# Altium schematic symbol library PIF_ROBOT.SchLib: 110 symbols
Pins are listed as number, name and electrical type; pins without a type are passive.

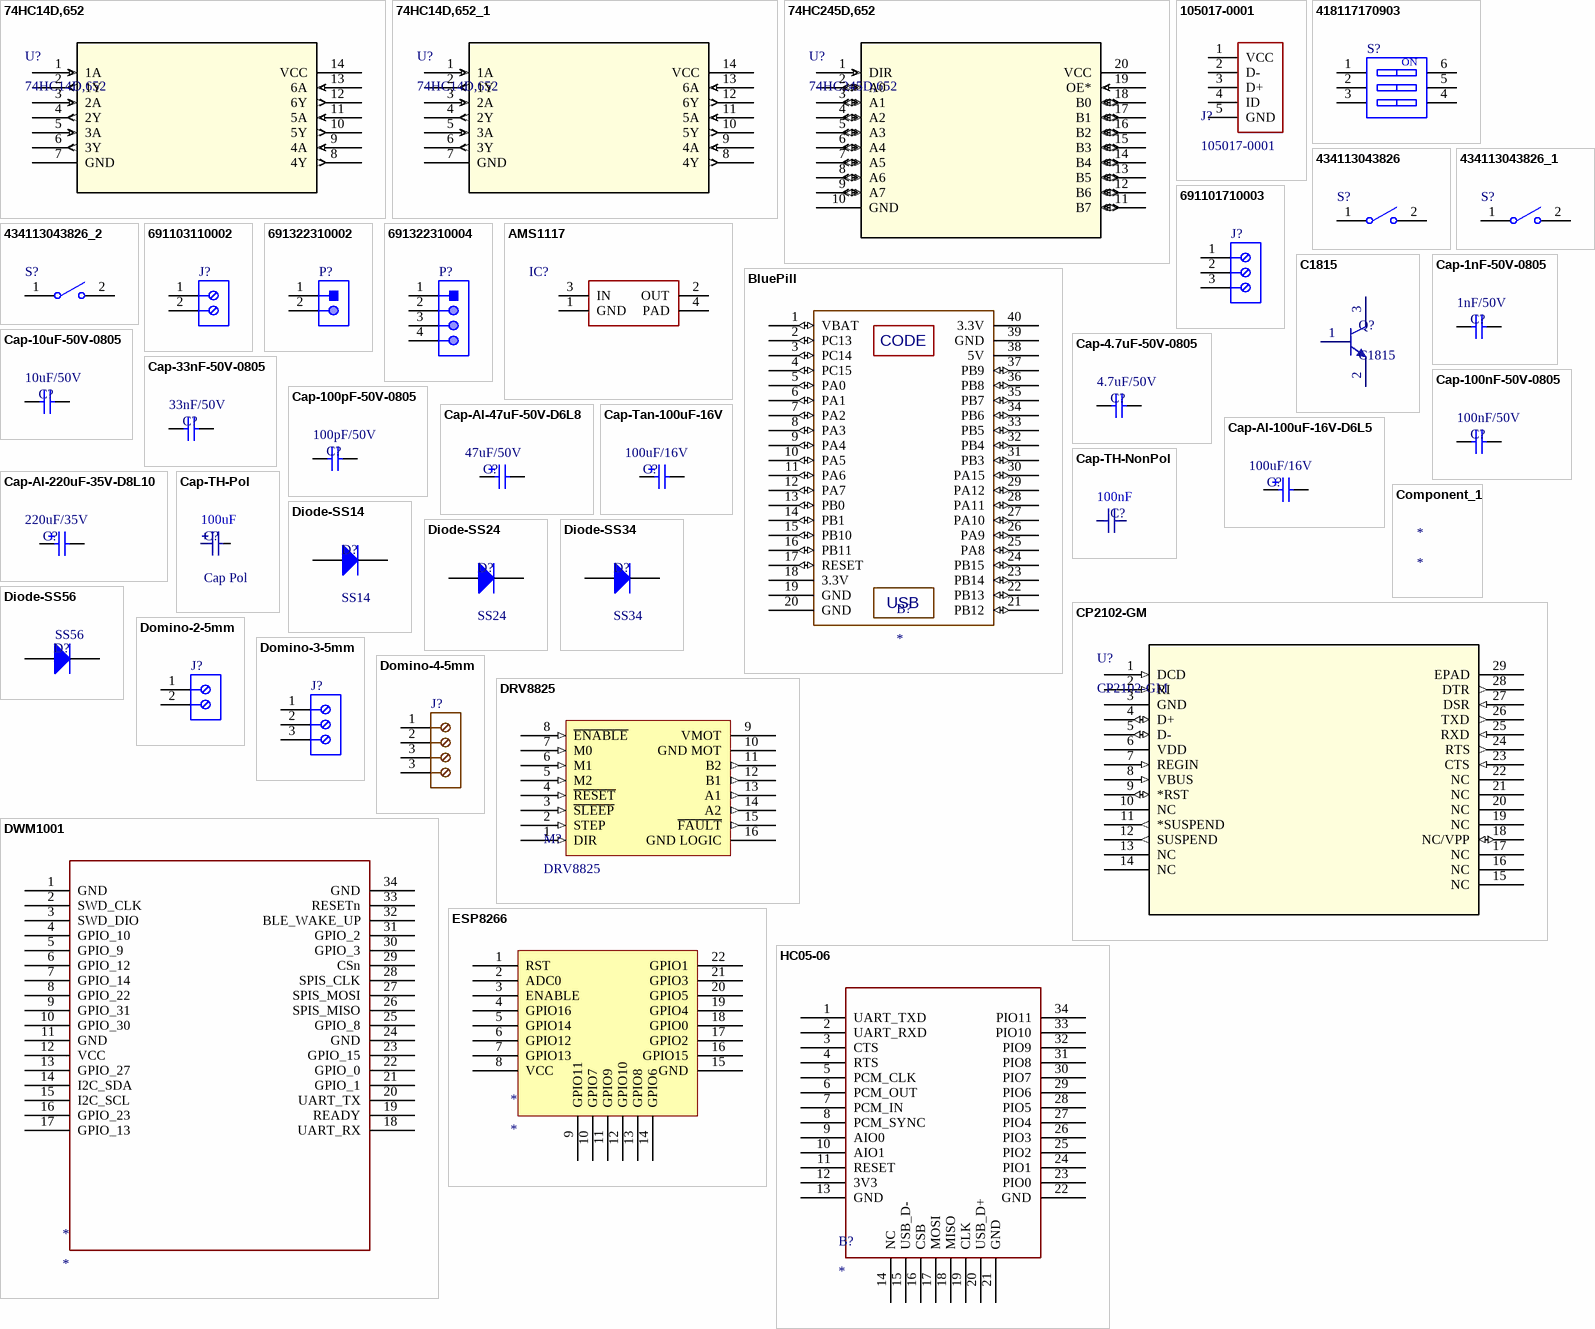
[diagram p0: symbols 74HC14D,652 to HC05-06]

## 74HC14D,652
designator U?
No Description Available; Vendor: Nexperia; SourceLibrary: Nexperia_2018-05-2018; Manufacturer_Part_Number: 74HC14D,652; Copyright: Copyright (C) 2016 Accelerated Designs. All rights reserved; RefDes: RefDes; Type: DEV
footprint 74hc14d
pins: 1 1A (in), 2 1Y (out), 3 2A (in), 4 2Y (out), 5 3A (in), 6 3Y (out), 7 GND (power), 8 4Y (out), 9 4A (in), 10 5Y (out), 11 5A (in), 12 6Y (out), 13 6A (in), 14 VCC (power)

## 74HC14D,652_1
designator U?, comment 74HC14D,652
No Description Available; Vendor: Nexperia; SourceLibrary: Nexperia_2018-05-2018; Manufacturer_Part_Number: 74HC14D,652; Copyright: Copyright (C) 2016 Accelerated Designs. All rights reserved; RefDes: RefDes; Type: DEV
footprint SOT108-1_NEX
pins: 1 1A (in), 2 1Y (out), 3 2A (in), 4 2Y (out), 5 3A (in), 6 3Y (out), 7 GND (power), 8 4Y (out), 9 4A (in), 10 5Y (out), 11 5A (in), 12 6Y (out), 13 6A (in), 14 VCC (power)

## 74HC245D,652
designator U?
No Description Available; Vendor: Nexperia; SourceLibrary: Nexperia_2018-05-2018; Manufacturer_Part_Number: 74HC245D,652; Copyright: Copyright (C) 2016 Accelerated Designs. All rights reserved; RefDes: RefDes; Type: DEV
footprint 74hc245d
pins: 1 DIR (in), 2 A0 (io), 3 A1 (io), 4 A2 (io), 5 A3 (io), 6 A4 (io), 7 A5 (io), 8 A6 (io), 9 A7 (io), 10 GND (power), 11 B7 (io), 12 B6 (io), 13 B5 (io), 14 B4 (io), 15 B3 (io), 16 B2 (io), 17 B1 (io), 18 B0 (io), 19 OE* (in), 20 VCC (power)

## 105017-0001
designator J?
No Description Available; Vendor: Molex Connector Corporation; Built_By: EMA_Cory; SourceLibrary: Molex_2020-05-26; Datasheet: https://www.molex.com/pdm_docs/sd/1050170001_sd.pdf; Manufacturer_Part_Number: 105017-0001; Copyright: Copyright (C) 2018 Accelerated Designs. All rights reserved; RefDes: RefDes; Type: DEV
footprint CONN_105017-0001
pins: 1 VCC, 2 D-, 3 D+, 4 ID, 5 GND

## 418117170903
designator S?
WS-DITV Compact THT Dip Switch, Flat Actuator, pitch 2.54mm, 3p; Part Number: 418117170903; Operation Force: 800g; Pole Number: 3; Actuator Type: Flat Type; Circuit: SPST-NO; Rated Current Switching: 25mA; Rated Current Non-Switching: 100mA; Rated Voltage Non-Switching: 50VDC; Rated Voltage Switching: 24VDC; ComponentLink1Description: Manufacturer; ComponentLink1URL: http://www.we-online.de; ComponentLink2Description: Datasheet; ComponentLink2URL: https://katalog.we-online.com/em/datasheet/418117170903.pdf; Pitch: 2.54mm; Contact Material: Copper Alloy; Mounting Technology: THT; Operating Temperature: -40 to +85degC; Contact Plating: Gold; Packaging: Tube; Publisher: Wurth Elektronik; Published Date: September 2019
footprint 418117170903
pins: 1, 2, 3, 4, 5, 6
text: ON

## 434113043826
designator S?
WS-TASV J-Bend SMT Tact Switch 6x3.5mm, height 4.3mm, 260gf; Part Number: 434113043826; Rated Voltage: 12VDC; Rated Current: 50mA; Washable: No; ComponentLink1Description: Manufacturer; ComponentLink1URL: http://www.we-online.de; ComponentLink2Description: Datasheet; ComponentLink2URL: https://katalog.we-online.com/em/datasheet/434113043826.pdf; Operating Temperature: -40 to +85degC; Published Date: September 2019; Contact Material: Stainless Steel; Height: 4.3mm; Mounting Technology: SMT; Contact Plating: Silver; Operation Force: 260gf; Packaging: Tape and Reel; Terminal Material: Copper Alloy; Publisher: Wurth Elektronik; Terminal Plating: Silver
footprint 434113043826 (SMD Tact Switch, body 6x3.5mm)
pins: 1, 2

## 434113043826_1
designator S?
WS-TASV J-Bend SMT Tact Switch 6x3.5mm, height 4.3mm, 260gf; Part Number: 434113043826; Rated Voltage: 12VDC; Rated Current: 50mA; Washable: No; ComponentLink1Description: Manufacturer; ComponentLink1URL: http://www.we-online.de; ComponentLink2Description: Datasheet; ComponentLink2URL: https://katalog.we-online.com/em/datasheet/434113043826.pdf; Operating Temperature: -40 to +85degC; Published Date: September 2019; Contact Material: Stainless Steel; Height: 4.3mm; Mounting Technology: SMT; Contact Plating: Silver; Operation Force: 260gf; Packaging: Tape and Reel; Terminal Material: Copper Alloy; Publisher: Wurth Elektronik; Terminal Plating: Silver
footprint 434113043826 (SMD Tact Switch, body 6x3.5mm)
pins: 1, 2

## 434113043826_2
designator S?
WS-TASV J-Bend SMT Tact Switch 6x3.5mm, height 4.3mm, 260gf; Part Number: 434113043826; Rated Voltage: 12VDC; Rated Current: 50mA; Washable: No; ComponentLink1Description: Manufacturer; ComponentLink1URL: http://www.we-online.de; ComponentLink2Description: Datasheet; ComponentLink2URL: https://katalog.we-online.com/em/datasheet/434113043826.pdf; Operating Temperature: -40 to +85degC; Published Date: September 2019; Contact Material: Stainless Steel; Height: 4.3mm; Mounting Technology: SMT; Contact Plating: Silver; Operation Force: 260gf; Packaging: Tape and Reel; Terminal Material: Copper Alloy; Publisher: Wurth Elektronik; Terminal Plating: Silver
footprint 434113043826 (SMD Tact Switch, body 6x3.5mm)
pins: 1, 2

## 691101710003
designator J?
WR-TBL Serie 101 Horizontal Entry Modular, Pressure Clamp, pitch 5mm, 3p; Part Number: 691101710003; Compliance: Lead free / RoHS; Modularity: Yes; PCB/Cable/Panel: PCB; Pin Number: 3; Rated Current [UL]: 16A; Working Voltage [UL]: 250VAC; ComponentLink1Description: Manufacturer; ComponentLink1URL: http://www.we-online.de; ComponentLink2URL: https://katalog.we-online.de/em/datasheet/691101710003.pdf; ComponentLink2Description: Datasheet; Mounting Technology: THT; Packaging: Box; Operating Temperature: -40 to +105degC; Pitch: 5mm; Published Date: October 2019; Type: Horizontal; Publisher: Wurth Elektronik; Application: Pressure Clamp
footprint 691101710003
pins: 1, 2, 3

## 691103110002
designator J?
WR-TBL Serie 1031 Horizontal Entry Modular, Pressure Clamp, pitch 3.5mm, 2p; Part Number: 691103110002; Compliance: Lead free / RoHS; Modularity: Yes; PCB/Cable/Panel: PCB; Pin Number: 2; Rated Current [UL]: 10A; Working Voltage [UL]: 125VAC; ComponentLink1Description: Manufacturer; ComponentLink1URL: http://www.we-online.de; ComponentLink2URL: https://katalog.we-online.de/em/datasheet/691103110002.pdf; ComponentLink2Description: Datasheet; Mounting Technology: THT; Packaging: Box; Operating Temperature: -40 to +105degC; Pitch: 3.5mm; Published Date: October 2019; Type: Horizontal; Publisher: Wurth Elektronik; Application: Pressure Clamp
footprint 691103110002
pins: 1, 2

## 691322310002
designator P?
WR-TBL Serie 322 Horizontal PCB Header, Pluggable, pitch 3.81mm, 2p; Part Number: 691322310002; Compliance: RoHS; Modularity: No; Pin Number: 2; Rated Current [UL]: 10A; Working Voltage [UL]: 300VAC; ComponentLink1Description: Manufacturer; ComponentLink1URL: http://www.we-online.de; ComponentLink2URL: https://katalog.we-online.de/em/datasheet/691322310002.pdf; ComponentLink2Description: Datasheet; Mounting Technology: THT; Packaging: Box; Operating Temperature: -40 to +105degC; PCB/Cable/Panel: PCB; Pitch: 3.81mm; Published Date: October 2019; Type: Horizontal; Publisher: Wurth Elektronik; Application: Pluggable
footprint 691322310002
pins: 1, 2

## 691322310004
designator P?
WR-TBL Serie 322 Horizontal PCB Header, Pluggable, pitch 3.81mm, 4p; Part Number: 691322310004; Compliance: RoHS; Modularity: No; Pin Number: 4; Rated Current [UL]: 10A; Working Voltage [UL]: 300VAC; ComponentLink1Description: Manufacturer; ComponentLink1URL: http://www.we-online.de; ComponentLink2URL: https://katalog.we-online.de/em/datasheet/691322310004.pdf; ComponentLink2Description: Datasheet; Mounting Technology: THT; Packaging: Box; Operating Temperature: -40 to +105degC; PCB/Cable/Panel: PCB; Pitch: 3.81mm; Published Date: October 2019; Type: Horizontal; Publisher: Wurth Elektronik; Application: Pluggable
footprint 691322310004
pins: 1, 2, 3, 4

## AMS1117
designator IC?
Available in 1.8V, 2.5V, 2.85V, 3.3V, 5V, and  Adjustable Versions; Value: LM317
footprint SOT223 (SOT223, 4-Leads, Body 6.5x3.5mm, Pitch 2.3mm, Lead Span 7mm, IPC Medium Density)
pins: 1 GND, 2 OUT, 3 IN, 4 PAD

## BluePill
designator B?
footprint BlUEPILL
pins: 1 VBAT (io), 2 PC13 (io), 3 PC14 (io), 4 PC15 (io), 5 PA0 (io), 6 PA1 (io), 7 PA2 (io), 8 PA3 (io), 9 PA4 (io), 10 PA5 (io), 11 PA6 (io), 12 PA7 (io), 13 PB0 (io), 14 PB1 (io), 15 PB10 (io), 16 PB11 (io), 17 RESET (io), 18 3.3V (power), 19 GND (power), 20 GND (power), 21 PB12 (io), 22 PB13 (io), 23 PB14 (io), 24 PB15 (io), 25 PA8 (io), 26 PA9 (io), 27 PA10 (io), 28 PA11 (io), 29 PA12 (io), 30 PA15 (io), 31 PB3 (io), 32 PB4 (io), 33 PB5 (io), 34 PB6 (io), 35 PB7 (io), 36 PB8 (io), 37 PB9 (io), 38 5V (power), 39 GND (power), 40 3.3V (power)
text: CODE; USB

## C1815
designator Q?
footprint QTO-92 (TO-92)
footprint SOT23_NEX
pins: 1 B, 2 E, 3 C

## Cap-1nF-50V-0805
designator C?  value 1nF/50V
CAP CER 1000PF 100V X7R 0805; Manufacturer: Johanson Dielectrics Inc.; Manufacturer Part Number: 101X15W102MV4E; Local Supplier: thegioiic; Local Supplier Link: https://thegioiic.com/products/tu-1nf-50v-0805; Supplier 1: Digikey; Supplier 1 Link: https://www.digikey.com/product-detail/en/johanson-dielectrics-inc/101X15W102MV4E/709-1335-1-ND/2327235; Supplier 1 Part Number: 709-1335-1-ND
footprint CAP-SM-0805
pins: 1, 2

## Cap-4.7uF-50V-0805
designator C?  value 4.7uF/50V
CAP CER 4.7UF 50V X5R 0805; Manufacturer: Murata Electronics; Manufacturer Part Number: GRM21BR61H475KE51L; Local Supplier: thegioiic; Local Supplier Link: https://thegioiic.com/products/tu-4-7uf-50v-0805-cap; Supplier 1: Digikey; Supplier 1 Link: https://www.digikey.com/product-detail/en/murata-electronics/GRM21BR61H475KE51L/490-10751-1-ND/5251349; Supplier 1 Part Number: 490-10751-1-ND
footprint CAP-SM-0805
pins: 1, 2

## Cap-10uF-50V-0805
designator C?  value 10uF/50V
CAP CER 10UF 50V X5R 0805; Manufacturer: Yageo; Manufacturer Part Number: CC0805KKX5R9BB106; Local Supplier: thegioiic; Local Supplier Link: https://thegioiic.com/products/tu-10uf-50v-0805; Supplier 1: Digikey; Supplier 1 Link: https://www.digikey.com/product-detail/en/yageo/CC0805KKX5R9BB106/311-3499-2-ND/7164383; Supplier 1 Part Number: 311-3499-2-ND
footprint CAP-SM-0805
pins: 1, 2

## Cap-33nF-50V-0805
designator C?  value 33nF/50V
CAP CER 0.033UF 50V X7R 0805; Manufacturer: Samsung Electro-Mechanics; Manufacturer Part Number: CL21B333KBANNNC; Local Supplier: thegioiic; Local Supplier Link: https://thegioiic.com/products/tu-33nf-50v-0805; Supplier 1: Digikey; Supplier 1 Link: https://www.digikey.com/product-detail/en/samsung-electro-mechanics/CL21B333KBANNNC/1276-1796-1-ND/3889882; Supplier 1 Part Number: 1276-1796-1-ND
footprint CAP-SM-0805
pins: 1, 2

## Cap-100nF-50V-0805
designator C?  value 100nF/50V
CAP CER 0.1UF 50V Y5V 0805; Manufacturer: Samsung Electro-Mechanics; Manufacturer Part Number: CL21F104ZBCNNNC; Local Supplier: thegioiic; Local Supplier Link: https://thegioiic.com/products/tu-100nf-0-1uf-50v-0805; Supplier 1: Digikey; Supplier 1 Part Number: 1276-1007-1-ND; Supplier 1 Link: https://www.digikey.com/product-detail/en/samsung-electro-mechanics/CL21F104ZBCNNNC/1276-1007-1-ND/3889093
footprint CAP-SM-0805
pins: 1, 2

## Cap-100pF-50V-0805
designator C?  value 100pF/50V
CAP CER 100PF 50V C0G/NP0 0805; Manufacturer: KEMET; Manufacturer Part Number: C0805C101J5GACTU; Local Supplier: thegioiic; Local Supplier Link: https://thegioiic.com/products/tu-100pf-50v-0805; Supplier 1: Digikey; Supplier 1 Part Number: 399-1122-1-ND; Supplier 1 Link: https://www.digikey.com/product-detail/en/kemet/C0805C101J5GACTU/399-1122-1-ND/411397
footprint CAP-SM-0805
pins: 1, 2

## Cap-Al-47uF-50V-D6L8
designator C?  value 47uF/50V
CAP ALUM POLY 47UF 20% 50V SMD; Manufacturer: KEMET; Manufacturer Part Number: A767KN476M1HLAE029; Local Supplier: thegioiic; Local Supplier Link: https://thegioiic.com/products/tu-nhom-smd-47uf-50v-d6l8; Supplier 1: Digikey; Supplier 1 Link: https://www.digikey.com/product-detail/en/kemet/A767KN476M1HLAE029/399-16576-1-ND/7933076; Supplier 1 Part Number: 399-16576-1-ND
footprint CAP-SM-AL-SIZE-D-D6L6 (WH6.6)
pins: 1, 2
1 alternate drawing of the same symbol

## Cap-Al-100uF-16V-D6L5
designator C?  value 100uF/16V
CAP ALUM 100UF 20% 16V SMD; Manufacturer: Nichicon; Manufacturer Part Number: UWX1C101MCL1GB; Local Supplier: thegioiic; Local Supplier Link: https://thegioiic.com/products/tu-nhom-smd-100uf-16v-d6-3l5-4; Supplier 1: Digikey; Supplier 1 Part Number: 493-2105-1-ND; Supplier 1 Link: https://www.digikey.com/product-detail/en/nichicon/UWX1C101MCL1GB/493-2105-1-ND/590080
footprint CAP-SM-AL-SIZE-D-D6L6 (WH6.6)
pins: 1, 2
1 alternate drawing of the same symbol

## Cap-Al-220uF-35V-D8L10
designator C?  value 220uF/35V
CAP ALUM 220UF 20% 35V SMD; Manufacturer: Nichicon; Manufacturer Part Number: UWT1V221MNL1GS; Local Supplier: thegioiic; Local Supplier Link: https://thegioiic.com/products/tu-nhom-smd-220uf-35v-d8l10; Supplier 1: Digikey; Supplier 1 Link: https://www.digikey.com/product-detail/en/nichicon/UWT1V221MNL1GS/493-2205-2-ND/589946; Supplier 1 Part Number: 493-2205-2-ND
footprint CAP-SM-AL-SIZE-F-D8L10 (WH8.3)
pins: 1, 2
1 alternate drawing of the same symbol

## Cap-Tan-100uF-16V
designator C?, comment value 100uF/16V  (hidden comment: TAJB107M006RNJ)
Manufacturer: Nichicon; Manufacturer Part Number: UWX1C101MCL1GB; Local Supplier: icdayroi; Local Supplier Link: https://icdayroi.com/tu-tantalum-100uf-16v-smd6032; Supplier 1: Digikey; Supplier 1 Part Number: 493-2105-1-ND; Supplier 1 Link: https://www.digikey.com/product-detail/en/nichicon/UWX1C101MCL1GB/493-2105-1-ND/590080
footprint CAP_SM_TAN
pins: 1, 2
1 alternate drawing of the same symbol

## Cap-TH-NonPol
designator C?, comment value 100nF  (hidden comment: Cap Non-Pol)
Capacitor
footprint CN1
footprint CN1.5
footprint CN2
footprint CN2.5 (Tu pin to pin 250mil)
footprint CN3 (Cap np W 0.3)
footprint CN4 (Cap np W 0.4)
pins: 1, 2

## Cap-TH-Pol
designator C?, comment Cap Pol  value 100uF
Polarized Capacitor (Radial)
footprint CP1/2 (Tu hoa < 22uF/16>50V)
footprint CP1/2N (Tu hoa < 22uF/16>50V)
footprint CP1/2.5 (Tu hoa 33 >100 uF,50V, 220uF/16V,25V)
footprint CP1/3.0
footprint CP1.5/2.5 (Tu hoa 33 >100 uF,50V, 220uF/16V,25V ( it su dung ))
footprint CP1.5/3.4 (Tu hoa 220->470uF,16V, 470uF/16V,25V)
footprint CP2/4 (Tu hoa 1000uF/16V/25V)
footprint CP2/5 (Tu hoa 1000uF/25V,50V)
footprint CP3/7 (Tu hoa 4700uF/25V)
footprint CP4/8.5 (Tu hoa 4700uF/50V)
footprint CP4/12 (Tu hoa 220uF/450V)
footprint CP4.5/19 (Tu hoa 10,000uF/63V)
pins: 1, 2
1 alternate drawing of the same symbol

## Component_1
designator *

## CP2102-GM
designator U?
No Description Available; Vendor: Silicon Labs; Built_By: EMA_UL_Team; SourceLibrary: Silicon_Labs_2015-03-23; Manufacturer_Part_Number: CP2102-GM; Copyright: Copyright (C) 2018 Accelerated Designs. All rights reserved; RefDes: RefDes; Type: DEV
footprint CP2102
pins: 1 DCD (in), 2 RI (in), 3 GND (power), 4 D+ (io), 5 D- (io), 6 VDD (power), 7 REGIN (in), 8 VBUS (in), 9 *RST (io), 10 NC, 11 *SUSPEND (out), 12 SUSPEND (out), 13 NC, 14 NC, 15 NC, 16 NC, 17 NC, 18 NC/VPP (io), 19 NC, 20 NC, 21 NC, 22 NC, 23 CTS (in), 24 RTS (out), 25 RXD (in), 26 TXD (out), 27 DSR (in), 28 DTR (out), 29 EPAD

## Diode-SS14
designator D?, comment SS14
DIODE SCHOTTKY 40V 1A SMA; Manufacturer: ON Semiconductor; Local Supplier: thegioiic; Local Supplier Link: https://thegioiic.com/products/ss14-sma; Supplier 1: Digikey; Supplier 1 Link: https://www.digikey.com/product-detail/en/on-semiconductor/SS14/SS14CT-ND/965729; Manufacturer Part Number: SS14; Supplier 1 Part Number: SS14CT-ND
footprint SS14 (DO-214-AC/SMA Molded Diode, Body 5.3x2.6mm, IPC Medium Density)
pins: 1 K, 2 A

## Diode-SS24
designator D?, comment SS24
DIODE SCHOTTKY 40V 2A DO214AA; Manufacturer: ON Semiconductor; Local Supplier: thegioiic; Local Supplier Link: https://thegioiic.com/products/ss24-smb; Supplier 1: Digikey; Supplier 1 Part Number: SS24FSCT-ND; Manufacturer Part Number: SS24; Supplier 1 Link: https://www.digikey.com/product-detail/en/on-semiconductor/SS24/SS24FSCT-ND/1626273
footprint SS24 (DO-214-AC/SMA Molded Diode, Body 5.3x2.6mm, IPC Medium Density)
pins: 1 K, 2 A

## Diode-SS34
designator D?, comment SS34
DIODE SCHOTTKY 40V 3A SMC; Manufacturer: ON Semiconductor; Local Supplier: thegioiic; Local Supplier Link: https://thegioiic.com/products/ss34-sma; Supplier 1: Digikey; Supplier 1 Link: https://www.digikey.com/product-detail/en/on-semiconductor/SS34/SS34FSCT-ND/2094459; Supplier 1 Part Number: SS34FSCT-ND; Manufacturer Part Number: SS34
footprint SS34 (DO-214-AC/SMA Molded Diode, Body 5.3x2.6mm, IPC Medium Density)
pins: 1 K, 2 A

## Diode-SS56
designator D?  value SS56
5.0A Surface Mount Schottky Rectifier; Supplier 1: thegioiic; Supplier 1 Link: https://thegioiic.com/products/ss56-smb
footprint SS56 (DO-214-AC/SMA Molded Diode, Body 5.3x2.6mm, IPC Medium Density)
pins: 1 K, 2 A

## Domino-2-5mm
designator J?
WR-TBL Serie 1347 Horizontal Cable Entry, Pressure Clamp, pitch 5mm, 2p; Part Number: 691134710002; Compliance: Lead free / RoHS; Modularity: Yes; PCB/Cable/Panel: PCB; Pin Number: 2; Rated Current [UL]: 16A; Working Voltage [UL]: 300VAC; ComponentLink1Description: Manufacturer; ComponentLink1URL: http://www.we-online.de; ComponentLink2URL: https://katalog.we-online.de/em/datasheet/691134710002.pdf; ComponentLink2Description: Datasheet; Mounting Technology: THT; Packaging: Box; Operating Temperature: -30 to +120degC; Pitch: 5mm; Published Date: October 2019; Type: Horizontal; Publisher: Wurth Elektronik; Application: Pressure Clamp
footprint DOMINO-2-5MM (Serie 1347 - 5.00 mm_2 pins)
pins: 1, 2

## Domino-3-5mm
designator J?
WR-TBL Serie 1347 Horizontal Cable Entry, Pressure Clamp, pitch 5mm, 3p; Part Number: 691134710003; Compliance: Lead free / RoHS; Modularity: Yes; PCB/Cable/Panel: PCB; Pin Number: 3; Rated Current [UL]: 16A; Working Voltage [UL]: 300VAC; ComponentLink1Description: Manufacturer; ComponentLink1URL: http://www.we-online.de; ComponentLink2URL: https://katalog.we-online.de/em/datasheet/691134710003.pdf; ComponentLink2Description: Datasheet; Mounting Technology: THT; Packaging: Box; Operating Temperature: -30 to +120degC; Pitch: 5mm; Published Date: October 2019; Type: Horizontal; Publisher: Wurth Elektronik; Application: Pressure Clamp
footprint DOMINO-3-5mm (Serie 1347 - 5.00 mm_3 pins)
pins: 1, 2, 3

## Domino-4-5mm
designator J?
WR-TBL Serie 1347 Horizontal Cable Entry, Pressure Clamp, pitch 5mm, 3p; Part Number: 691134710003; Compliance: Lead free / RoHS; Modularity: Yes; PCB/Cable/Panel: PCB; Pin Number: 3; Rated Current [UL]: 16A; Working Voltage [UL]: 300VAC; ComponentLink1Description: Manufacturer; ComponentLink1URL: http://www.we-online.de; ComponentLink2URL: https://katalog.we-online.de/em/datasheet/691134710003.pdf; ComponentLink2Description: Datasheet; Mounting Technology: THT; Packaging: Box; Operating Temperature: -30 to +120degC; Pitch: 5mm; Published Date: October 2019; Type: Horizontal; Publisher: Wurth Elektronik; Application: Pressure Clamp
footprint DOMINO-4-5MM
pins: 1, 2, 3, 3

## DRV8825
designator M?
footprint DRV8825
pins: 1 DIR (in), 2 STEP (in), 3 ~{SLEEP} (in), 4 ~{RESET} (in), 5 M2 (in), 6 M1 (in), 7 M0 (in), 8 ~{ENABLE} (in), 9 VMOT, 10 GND MOT, 11 B2 (out), 12 B1 (out), 13 A1 (out), 14 A2 (out), 15 ~{FAULT} (out), 16 GND LOGIC

## DWM1001
designator *
footprint DWM1001
pins: 1 GND, 2 SWD_CLK, 3 SWD_DIO, 4 GPIO_10, 5 GPIO_9, 6 GPIO_12, 7 GPIO_14, 8 GPIO_22, 9 GPIO_31, 10 GPIO_30, 11 GND, 12 VCC, 13 GPIO_27, 14 I2C_SDA, 15 I2C_SCL, 16 GPIO_23, 17 GPIO_13, 18 UART_RX, 19 READY, 20 UART_TX, 21 GPIO_1, 22 GPIO_0, 23 GPIO_15, 24 GND, 25 GPIO_8, 26 SPIS_MISO, 27 SPIS_MOSI, 28 SPIS_CLK, 29 CSn, 30 GPIO_3, 31 GPIO_2, 32 BLE_WAKE_UP, 33 RESETn, 34 GND

## ESP8266
designator *
Local supplier: Hshop; Local supplier link: https://hshop.vn/products/kit-rf-thu-phat-wifi-esp8266-nodemcu; Local supplier number: HS000592; manufacturer: *; Manufacturer Part Number: *
footprint ESP88
pins: 1 RST, 2 ADC0, 3 ENABLE, 4 GPIO16, 5 GPIO14, 6 GPIO12, 7 GPIO13, 8 VCC, 9 GPIO11, 10 GPIO7, 11 GPIO9, 12 GPIO10, 13 GPIO8, 14 GPIO6, 15 GND, 16 GPIO15, 17 GPIO2, 18 GPIO0, 19 GPIO4, 20 GPIO5, 21 GPIO3, 22 GPIO1

## HC05-06
designator B?
footprint HC05-06
pins: 1 UART_TXD, 2 UART_RXD, 3 CTS, 4 RTS, 5 PCM_CLK, 6 PCM_OUT, 7 PCM_IN, 8 PCM_SYNC, 9 AIO0, 10 AIO1, 11 RESET, 12 3V3, 13 GND, 14 NC, 15 USB_D-, 16 CSB, 17 MOSI, 18 MISO, 19 CLK, 20 USB_D+, 21 GND, 22 GND, 23 PIO0, 24 PIO1, 25 PIO2, 26 PIO3, 27 PIO4, 28 PIO5, 29 PIO6, 30 PIO7, 31 PIO8, 32 PIO9, 33 PIO10, 34 PIO11

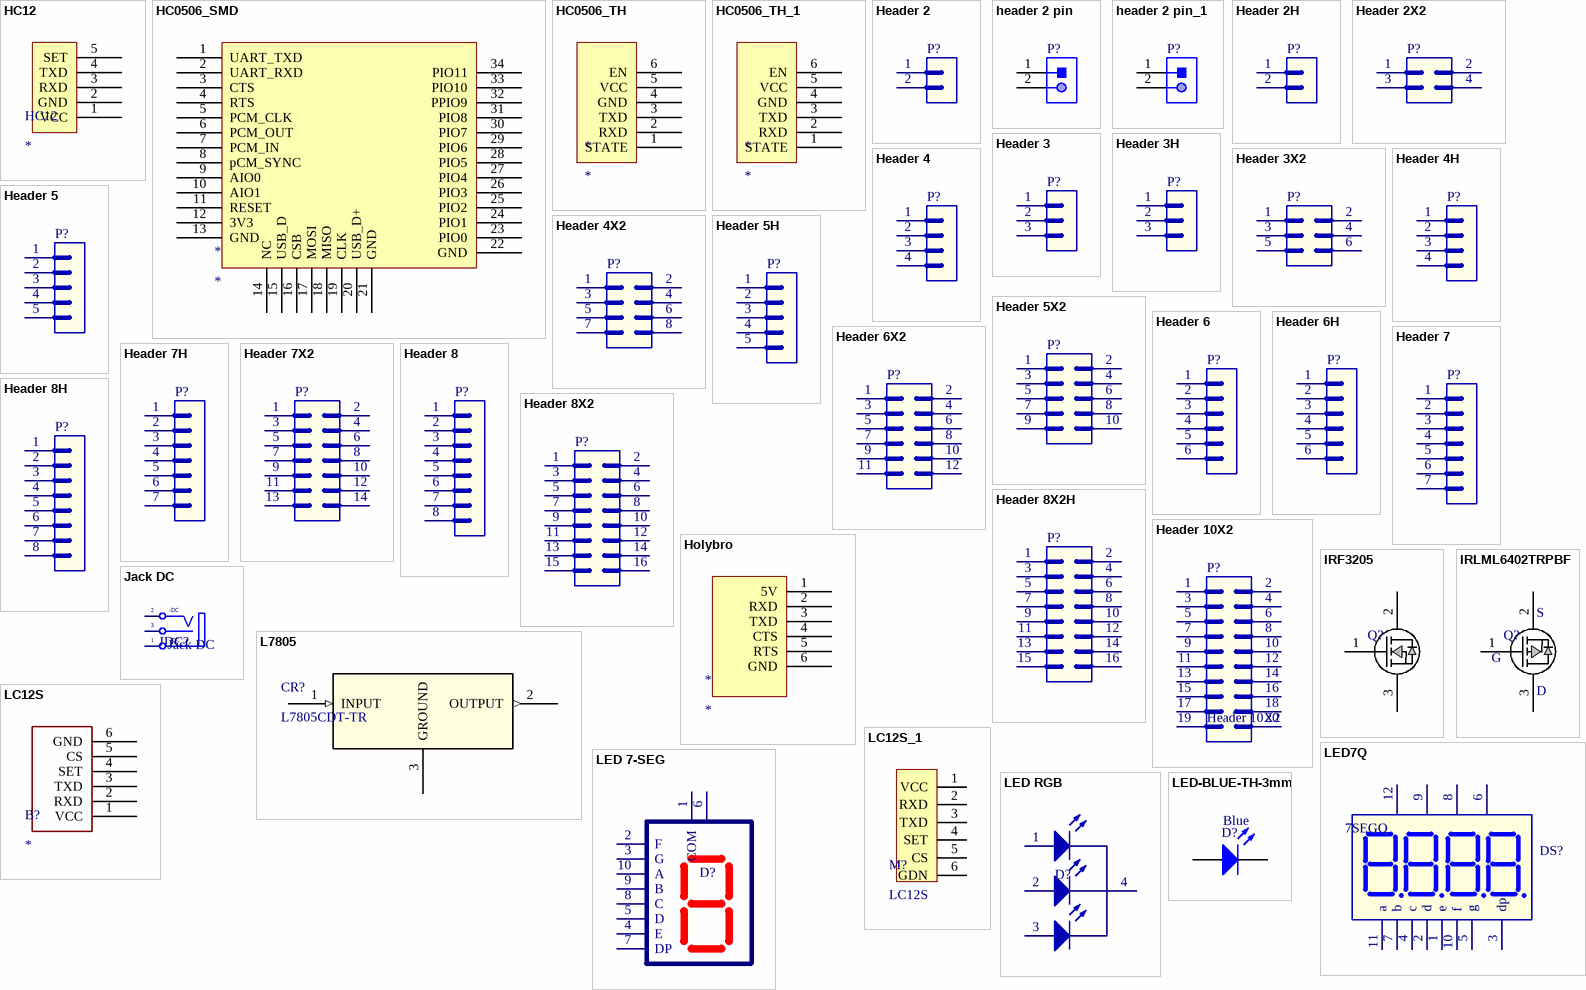
[diagram p1: symbols HC12 to LED-BLUE-TH-3mm]

## HC12
designator HC12
Local Supplier: Hshop; Local Supplier Link: https://hshop.vn/products/mach-thu-phat-rf-uart-si4463-433mhzkhoang-coch-1km; Local Supplier number Part: HS000897; Manufacturer: *; Manufacturer Part Number: *
footprint HC12
pins: 1 VCC, 2 GND, 3 RXD, 4 TXD, 5 SET

## HC0506_SMD
designator *
local supplier: *; local supplier link: *; local supplier part number: *; manufacturer: *; manufacturer part number: *
footprint PCBComponent_1
pins: 1 UART_TXD, 2 UART_RXD, 3 CTS, 4 RTS, 5 PCM_CLK, 6 PCM_OUT, 7 PCM_IN, 8 pCM_SYNC, 9 AIO0, 10 AIO1, 11 RESET, 12 3V3, 13 GND, 14 NC, 15 USB_D, 16 CSB, 17 MOSI, 18 MISO, 19 CLK, 20 USB_D+, 21 GND, 22 GND, 23 PIO0, 24 PIO1, 25 PIO2, 26 PIO3, 27 PIO4, 28 PIO5, 29 PIO6, 30 PIO7, 31 PIO8, 32 PPIO9, 33 PIO10, 34 PIO11

## HC0506_TH
designator *
local supplier: Hshop; local supplier link: https://hshop.vn/products/mach-thu-phat-bluetooth-hc-05-do-ra-chon-master; local supplier part number: HS000882; manufacturer: *; manufacturer part number: *
footprint PCBComponent_1
pins: 1 STATE, 2 RXD, 3 TXD, 4 GND, 5 VCC, 6 EN

## HC0506_TH_1
designator *
local supplier: Hshop; local supplier link: https://hshop.vn/products/mach-thu-phat-bluetooth-hc-05-do-ra-chon-master; local supplier part number: HS000882; manufacturer: *; manufacturer part number: *
footprint PCBComponent_1
pins: 1 STATE, 2 RXD, 3 TXD, 4 GND, 5 VCC, 6 EN

## Header 2
designator P?
Header, 2-Pin; LatestRevisionDate: 17-Jul-2002; LatestRevisionNote: Re-released for DXP Platform.; Publisher: Altium Limited
footprint JP2
pins: 1, 2

## header 2 pin
designator P?
WR-TBL Serie 322 Horizontal PCB Header, Pluggable, pitch 3.81mm, 2p; Part Number: 691322310002; Compliance: RoHS; Modularity: No; Pin Number: 2; Rated Current [UL]: 10A; Working Voltage [UL]: 300VAC; ComponentLink1Description: Manufacturer; ComponentLink1URL: http://www.we-online.de; ComponentLink2URL: https://katalog.we-online.de/em/datasheet/691322310002.pdf; ComponentLink2Description: Datasheet; Mounting Technology: THT; Packaging: Box; Operating Temperature: -40 to +105degC; PCB/Cable/Panel: PCB; Pitch: 3.81mm; Published Date: October 2019; Type: Horizontal; Publisher: Wurth Elektronik; Application: Pluggable
footprint 691322310002
pins: 1, 2

## header 2 pin_1
designator P?
WR-TBL Serie 322 Horizontal PCB Header, Pluggable, pitch 3.81mm, 2p; Part Number: 691322310002; Compliance: RoHS; Modularity: No; Pin Number: 2; Rated Current [UL]: 10A; Working Voltage [UL]: 300VAC; ComponentLink1Description: Manufacturer; ComponentLink1URL: http://www.we-online.de; ComponentLink2URL: https://katalog.we-online.de/em/datasheet/691322310002.pdf; ComponentLink2Description: Datasheet; Mounting Technology: THT; Packaging: Box; Operating Temperature: -40 to +105degC; PCB/Cable/Panel: PCB; Pitch: 3.81mm; Published Date: October 2019; Type: Horizontal; Publisher: Wurth Elektronik; Application: Pluggable
footprint 691322310002
pins: 1, 2

## Header 2H
designator P?
Header, 2-Pin, Right Angle; LatestRevisionDate: 17-Jul-2002; LatestRevisionNote: Re-released for DXP Platform.; Publisher: Altium Limited
footprint JP2H
pins: 1, 2

## Header 2X2
designator P?
Header, 2-Pin, Dual row; LatestRevisionDate: 17-Jul-2002; LatestRevisionNote: Re-released for DXP Platform.; Publisher: Altium Limited
footprint JP2X2
footprint JP2X2H
pins: 1, 2, 3, 4

## Header 3
designator P?
Header, 3-Pin; LatestRevisionDate: 17-Jul-2002; LatestRevisionNote: Re-released for DXP Platform.; Publisher: Altium Limited
footprint JP3 (Jumper 3)
pins: 1, 2, 3

## Header 3H
designator P?
Header, 3-Pin, Right Angle; LatestRevisionDate: 17-Jul-2002; LatestRevisionNote: Re-released for DXP Platform.; Publisher: Altium Limited
footprint JP3H
pins: 1, 2, 3

## Header 3X2
designator P?
Header, 3-Pin, Dual row; LatestRevisionDate: 17-Jul-2002; LatestRevisionNote: Re-released for DXP Platform.; Publisher: Altium Limited
footprint JP3x2 (Connector 3x2)
pins: 1, 2, 3, 4, 5, 6

## Header 4
designator P?
Header, 4-Pin; LatestRevisionDate: 17-Jul-2002; LatestRevisionNote: Re-released for DXP Platform.; Publisher: Altium Limited
footprint JP4 (Jumper 4)
pins: 1, 2, 3, 4

## Header 4H
designator P?
Header, 4-Pin, Right Angle; LatestRevisionDate: 17-Jul-2002; LatestRevisionNote: Re-released for DXP Platform.; Publisher: Altium Limited
footprint JP4H
pins: 1, 2, 3, 4

## Header 4X2
designator P?
Header, 4-Pin, Dual row; LatestRevisionDate: 17-Jul-2002; LatestRevisionNote: Re-released for DXP Platform.; Publisher: Altium Limited
footprint JP4x2 (Connector 4x2)
pins: 1, 2, 3, 4, 5, 6, 7, 8

## Header 5
designator P?
Header, 5-Pin; LatestRevisionDate: 17-Jul-2002; LatestRevisionNote: Re-released for DXP Platform.; Publisher: Altium Limited
footprint JP5
pins: 1, 2, 3, 4, 5

## Header 5H
designator P?
Header, 5-Pin, Right Angle; LatestRevisionDate: 17-Jul-2002; LatestRevisionNote: Re-released for DXP Platform.; Publisher: Altium Limited
footprint JP5H
pins: 1, 2, 3, 4, 5

## Header 5X2
designator P?
Header, 5-Pin, Dual row; LatestRevisionDate: 17-Jul-2002; LatestRevisionNote: Re-released for DXP Platform.; Publisher: Altium Limited
footprint JP5X2
pins: 1, 2, 3, 4, 5, 6, 7, 8, 9, 10

## Header 6
designator P?
Header, 6-Pin; LatestRevisionDate: 17-Jul-2002; LatestRevisionNote: Re-released for DXP Platform.; Publisher: Altium Limited
footprint JP6
pins: 1, 2, 3, 4, 5, 6

## Header 6H
designator P?
Header, 6-Pin, Right Angle; LatestRevisionDate: 17-Jul-2002; LatestRevisionNote: Re-released for DXP Platform.; Publisher: Altium Limited
footprint JP6H
pins: 1, 2, 3, 4, 5, 6

## Header 6X2
designator P?
Header, 6-Pin, Dual row; LatestRevisionDate: 17-Jul-2002; LatestRevisionNote: Re-released for DXP Platform.; Publisher: Altium Limited
footprint JP6X2
pins: 1, 2, 3, 4, 5, 6, 7, 8, 9, 10, 11, 12

## Header 7
designator P?
Header, 7-Pin; LatestRevisionDate: 17-Jul-2002; LatestRevisionNote: Re-released for DXP Platform.; Publisher: Altium Limited
footprint JP7
pins: 1, 2, 3, 4, 5, 6, 7

## Header 7H
designator P?
Header, 7-Pin, Right Angle; LatestRevisionDate: 17-Jul-2002; LatestRevisionNote: Re-released for DXP Platform.; Publisher: Altium Limited
footprint JP7H
pins: 1, 2, 3, 4, 5, 6, 7

## Header 7X2
designator P?
Header, 7-Pin, Dual row; LatestRevisionDate: 17-Jul-2002; LatestRevisionNote: Re-released for DXP Platform.; Publisher: Altium Limited
footprint JP7X2
pins: 1, 2, 3, 4, 5, 6, 7, 8, 9, 10, 11, 12, 13, 14

## Header 8
designator P?
Header, 8-Pin; LatestRevisionDate: 17-Jul-2002; LatestRevisionNote: Re-released for DXP Platform.; Publisher: Altium Limited
footprint JP8
pins: 1, 2, 3, 4, 5, 6, 7, 8

## Header 8H
designator P?
Header, 8-Pin, Right Angle; LatestRevisionDate: 17-Jul-2002; LatestRevisionNote: Re-released for DXP Platform.; Publisher: Altium Limited
footprint JP8H
pins: 1, 2, 3, 4, 5, 6, 7, 8

## Header 8X2
designator P?
Header, 8-Pin, Dual row; LatestRevisionDate: 17-Jul-2002; LatestRevisionNote: Re-released for DXP Platform.; Publisher: Altium Limited
footprint JP8X2
pins: 1, 2, 3, 4, 5, 6, 7, 8, 9, 10, 11, 12, 13, 14, 15, 16

## Header 8X2H
designator P?
Header, 8-Pin, Dual row, Right Angle; LatestRevisionDate: 17-Jul-2002; LatestRevisionNote: Re-released for DXP Platform.; Publisher: Altium Limited
footprint JP8x2H
pins: 1, 2, 3, 4, 5, 6, 7, 8, 9, 10, 11, 12, 13, 14, 15, 16

## Header 10X2
designator P?
Header, 10-Pin, Dual row; LatestRevisionDate: 17-Jul-2002; LatestRevisionNote: Re-released for DXP Platform.; Publisher: Altium Limited
footprint JP10X2
pins: 1, 2, 3, 4, 5, 6, 7, 8, 9, 10, 11, 12, 13, 14, 15, 16, 17, 18, 19, 20

## Holybro
designator *
footprint Holybro
pins: 1 5V, 2 RXD, 3 TXD, 4 CTS, 5 RTS, 6 GND

## IRF3205
designator Q?
N-Channel 55V 110A (Tc) 200W (Tc) Through Hole TO-220AB
footprint TO220AB
pins: 1 G, 2 D, 3 S

## IRLML6402TRPBF
designator Q?
P-Channel 20V 3.7A (Ta) 1.3W (Ta) Surface Mount Micro3™/SOT-23
footprint SOT23_NEX
pins: 1 G, 2 S, 3 D

## Jack DC
designator JDC?
Jack DC input; Value: Jac DC
footprint JACK-DC (Jack DC input)
pins: 1 T "Tip", 2 TN "Tip Normal (Break Contact)", 3 S (power) "Sleeve (Ground)"
text: -DC; +DC

## L7805
designator CR?, comment L7805CDT-TR
No Description Available; SourceLibrary: StMicro_2011-06-07; Built_By: EMA_UL_Team; Vendor: STMicroelectronics; Type: DEV; Manufacturer_Part_Number: L7805CDT-TR; Copyright: Copyright (C) 2018 Accelerated Designs. All rights reserved; RefDes: RefDes
footprint L7805
pins: 1 INPUT (in), 2 OUTPUT (out), 3 GROUND

## LC12S
designator B?
footprint LC12S
pins: 1 VCC, 2 RXD, 3 TXD, 4 SET, 5 CS, 6 GND

## LC12S_1
designator M?, comment LC12S
Local Supplier: HShop; Local Supplier Link: https://hshop.vn/products/mach-thu-phat-rf-uart-lc12s-2-4ghz?fbclid=IwAR0e93g5r5pqSqauJ2OkiRjEZxVyYIbd5zuxSPAKWG597rf24lAkHuwRrTY; Local Supplier Part Number: HS000895; Manufacturer: *; Manufacturer Part Number: *
footprint L12S
pins: 1 VCC, 2 RXD, 3 TXD, 4 SET, 5 CS, 6 GDN

## LED7Q
designator DS?, comment 7SEGQ
Four 7 Seg Dipslay; Value: LED 7Q SEG
footprint 7SEGQ (DIP 12 Leads; Body 48 x 20 mm; Pitch 0.5 mm)
pins: 1 e, 2 d, 3 dp, 4 c, 5 g, 6 V4, 7 b, 8 V3, 9 V2, 10 f, 11 a, 12 V1

## LED 7-SEG
designator D?  (value not drawn)
Product ID: CEM3161BE; Name: 0.36" Anode single 7-seg; Supplier: tme.vn
footprint LED 7-SEG 0.36" (0.36" Single 7-seg)
pins: 1 COM, 2 F, 3 G, 4 E, 5 D, 6 COM, 7 DP, 8 C, 9 B, 10 A

## LED RGB
designator D?  (value not drawn)
footprint LED RGB
pins: 1 Anod, 2 Anod, 3 Anod, 4 Anod

## LED-BLUE-TH-3mm
designator D?  value Blue
LED BLUE CLEAR T-1 T/H; Manufacturer: Kingbright; Manufacturer Part Number: WP710A10QBC/D; Local Supplier: thegioiic; Local Supplier Link: https://thegioiic.com/products/led-xanh-duong-3mm-chan-dai; Supplier 1: Digikey; Supplier 1 Link: https://www.digikey.com/product-detail/en/kingbright/WP710A10QBC-D/754-1596-ND/2769812; Supplier 1 Part Number: 754-1596-ND
footprint LED-3mm (LED 2 PIN, 3ly Only colour)
pins: 1 A, 2 K

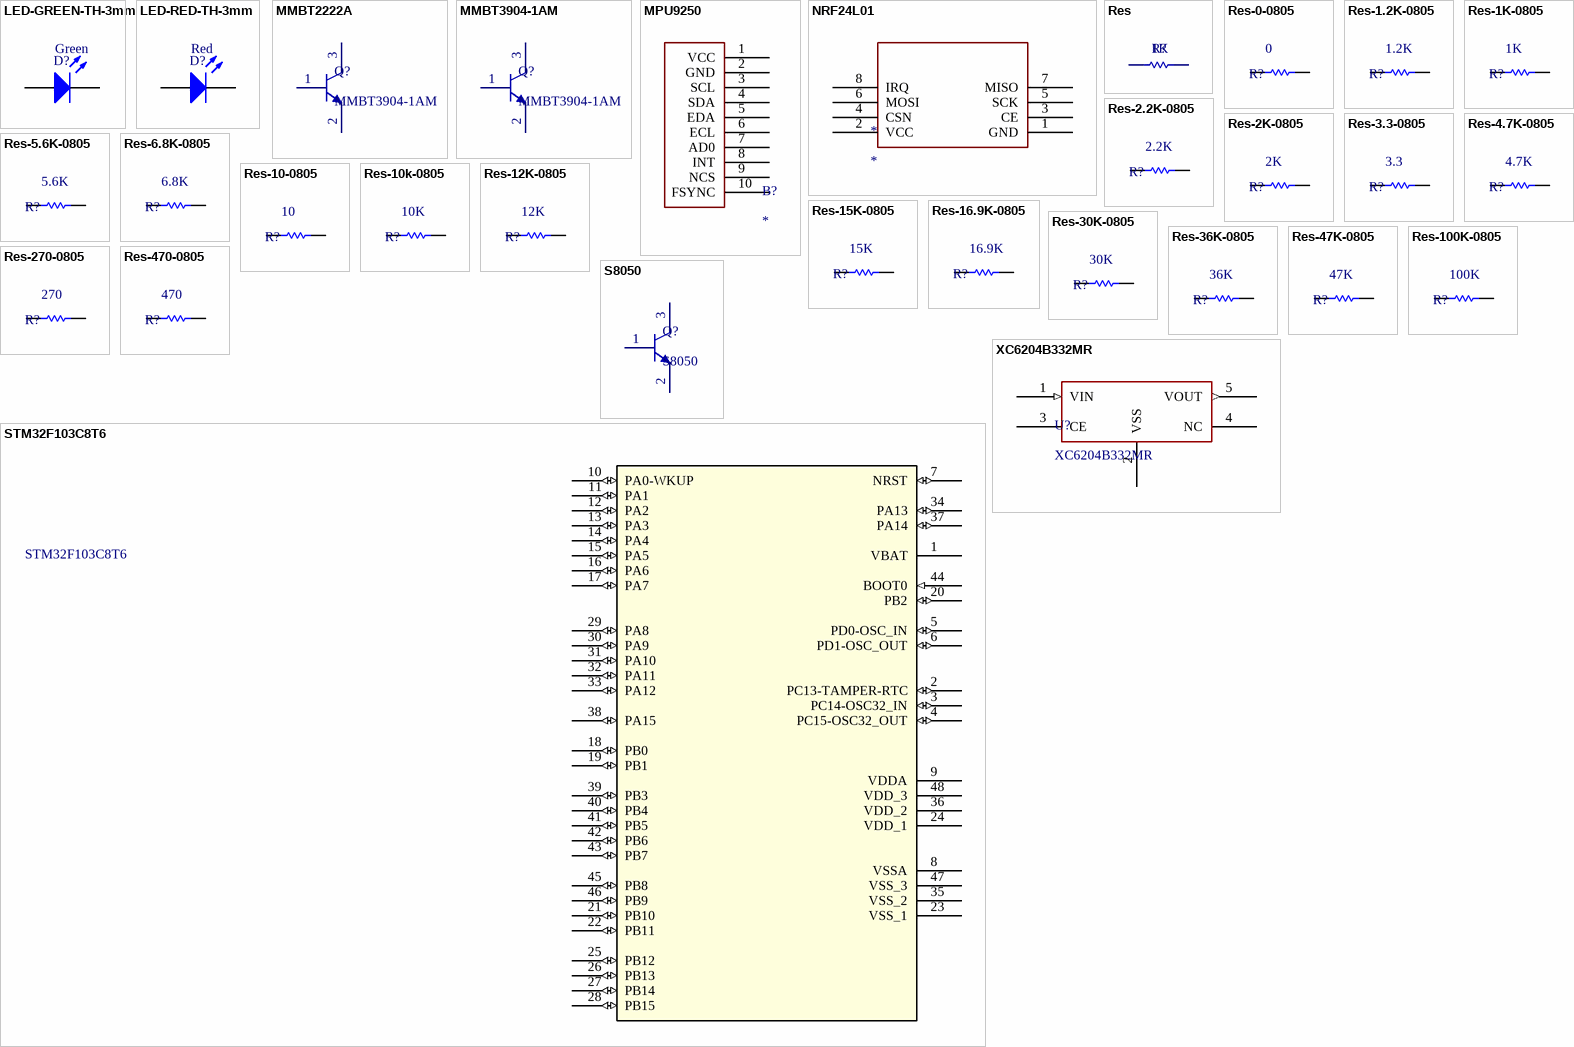
[diagram p2: symbols LED-GREEN-TH-3mm to XC6204B332MR]

## LED-GREEN-TH-3mm
designator D?  value Green
LED GREEN CLEAR T-1 T/H; Manufacturer: Kingbright; Manufacturer Part Number: WP710A10ZGC/G; Local Supplier: thegioiic; Local Supplier Link: https://thegioiic.com/products/led-xanh-la-3mm-chan-dai; Supplier 1: Digikey; Supplier 1 Link: https://www.digikey.com/product-detail/en/kingbright/WP710A10ZGC-G/754-1612-ND/2769684; Supplier 1 Part Number: 754-1612-ND
footprint LED-3mm (LED 2 PIN, 3ly Only colour)
pins: 1 A, 2 K

## LED-RED-TH-3mm
designator D?  value Red
LED RED CLEAR T-1 T/H; Manufacturer: Kingbright; Manufacturer Part Number: WP710A10SEC/J3; Local Supplier: thegioiic; Local Supplier Link: https://thegioiic.com/products/led-do-3mm-chan-dai; Supplier 1: Digikey; Supplier 1 Link: https://www.digikey.com/product-detail/en/kingbright/WP710A10SEC-J3/754-1589-ND/2769815; Supplier 1 Part Number: 754-1589-ND
footprint LED-3mm (LED 2 PIN, 3ly Only colour)
pins: 1 A, 2 K

## MMBT2222A
designator Q?, comment MMBT3904-1AM
footprint SOT23_NEX
pins: 1 B, 2 E, 3 C

## MMBT3904-1AM
designator Q?
footprint SOT23_NEX
pins: 1 B, 2 E, 3 C

## MPU9250
designator B?
footprint MPU9250 (JP8)
pins: 1 VCC, 2 GND, 3 SCL, 4 SDA, 5 EDA, 6 ECL, 7 AD0, 8 INT, 9 NCS, 10 FSYNC

## NRF24L01
designator *
footprint NRF24L01
pins: 1 GND, 2 VCC, 3 CE, 4 CSN, 5 SCK, 6 MOSI, 7 MISO, 8 IRQ

## Res
designator R?, comment value 1K  (hidden comment: Resistor 1/4W)
footprint RES 1/4W
footprint RES 1/2W (R 1/2W, 2 pin, 300mil)
pins: 1, 2

## Res-0-0805
designator R?  value 0
RES 0 OHM JUMPER 0805; Manufacturer: Vishay Dale; Manufacturer Part Number: WSL080500000ZEA9; Local Supplier: thegioiic; Local Supplier Link: https://thegioiic.com/products/dien-tro-0-ohm-0805-5; Supplier 1: Digikey; Supplier 1 Link: https://www.digikey.com/product-detail/en/vishay-dale/WSL080500000ZEA9/541-3928-1-ND/7423223; Supplier 1 Part Number: 541-3928-1-ND
footprint RES-SM-0805
pins: 1, 2

## Res-1.2K-0805
designator R?  value 1.2K
RES SMD 1.2K OHM 1% 1/8W 0805; Manufacturer: TE Connectivity Passive Product; Manufacturer Part Number: CRG0805F1K2; Local Supplier: thegioiic; Local Supplier Link: https://thegioiic.com/products/dien-tro-1-2k-ohm-0805-5; Supplier 1: Digikey; Supplier 1 Link: https://www.digikey.com/product-detail/en/te-connectivity-passive-product/CRG0805F1K2/A126346CT-ND/7603401; Supplier 1 Part Number: A126346CT-ND
footprint RES-SM-0805
pins: 1, 2

## Res-1K-0805
designator R?  value 1K
RES 1K OHM 1% 1/4W 0805; Manufacturer: Stackpole Electronics Inc; Manufacturer Part Number: RNCP0805FTD1K00; Local Supplier: thegioiic; Local Supplier Link: https://thegioiic.com/products/dien-tro-1k-ohm-0805-5; Supplier 1: Digikey; Supplier 1 Link: https://www.digikey.com/product-detail/en/stackpole-electronics-inc/RNCP0805FTD1K00/RNCP0805FTD1K00CT-ND/2240568; Supplier 1 Part Number: RNCP0805FTD1K00CT-ND
footprint RES-SM-0805
pins: 1, 2

## Res-2.2K-0805
designator R?  value 2.2K
RES SMD 2.2K OHM 1% 1/8W 0805; Manufacturer: TE Connectivity Passive Product; Manufacturer Part Number: CRG0805F2K2; Local Supplier: thegioiic; Local Supplier Link: https://thegioiic.com/products/dien-tro-2-2k-ohm-0805-5; Supplier 1: Digikey; Supplier 1 Link: https://www.digikey.com/product-detail/en/te-connectivity-passive-product/CRG0805F2K2/A106060CT-ND/3477706; Supplier 1 Part Number: A106060CT-ND
footprint RES-SM-0805
pins: 1, 2

## Res-2K-0805
designator R?  value 2K
RES 2K OHM 0.1% 1/8W 0805; Manufacturer: Panasonic Electronic Components; Manufacturer Part Number: ERA-6AEB202V; Local Supplier: thegioiic; Local Supplier Link: https://thegioiic.com/products/dien-tro-2k-ohm-0805-1; Supplier 1: Digikey; Supplier 1 Link: https://www.digikey.com/product-detail/en/panasonic-electronic-components/ERA-6AEB202V/P2.0KDATR-ND/1465756; Supplier 1 Part Number: P2.0KDATR-ND
footprint RES-SM-0805
pins: 1, 2

## Res-3.3-0805
designator R?  value 3.3
RES SMD 3.3 OHM 5% 0.4W 0805; Manufacturer: Rohm Semiconductor; Manufacturer Part Number: ESR10EZPJ3R3; Local Supplier: thegioiic; Local Supplier Link: https://thegioiic.com/products/dien-tro-3-3-ohm-0805-5; Supplier 1: Digikey; Supplier 1 Link: https://www.digikey.com/product-detail/en/rohm-semiconductor/ESR10EZPJ3R3/RHM3.3KCT-ND/1763022; Supplier 1 Part Number: RHM3.3KCT-ND
footprint RES-SM-0805
pins: 1, 2

## Res-4.7K-0805
designator R?  value 4.7K
RES SMD 4.7K OHM 5% 1/8W 0805; Manufacturer: Yageo; Manufacturer Part Number: RC0805JR-074K7L; Local Supplier: thegioiic; Local Supplier Link: https://thegioiic.com/products/dien-tro-4-7k-ohm-0805-5; Supplier 1: Digikey; Supplier 1 Link: https://www.digikey.com/product-detail/en/yageo/RC0805JR-074K7L/311-4.7KARCT-ND/731274; Supplier 1 Part Number: 311-4.7KARCT-ND
footprint RES-SM-0805
pins: 1, 2

## Res-5.6K-0805
designator R?  value 5.6K
RES SMD 5.6K OHM 1% 1/8W 0805; Manufacturer: Yageo; Manufacturer Part Number: RC0805FR-075K6L; Local Supplier: thegioiic; Local Supplier Link: https://thegioiic.com/products/dien-tro-5-6k-ohm-0805-5; Supplier 1: Digigkey; Supplier 1 Link: https://www.digikey.com/product-detail/en/yageo/RC0805FR-075K6L/311-5.60KCRCT-ND/730949; Supplier 1 Part Number: 311-5.60KCRCT-ND
footprint RES-SM-0805
pins: 1, 2

## Res-6.8K-0805
designator R?  value 6.8K
RES SMD 6.8K OHM 1% 1/8W 0805; Manufacturer: TE Connectivity Passive Product; Manufacturer Part Number: CRG0805F6K8; Local Supplier: thegioiic; Local Supplier Link: https://thegioiic.com/products/dien-tro-6-8k-ohm-0603-5; Supplier 1: Digikey; Supplier 1 Link: https://www.digikey.com/product-detail/en/te-connectivity-passive-product/CRG0805F6K8/A126384CT-ND/7603439; Supplier 1 Part Number: A126384CT-ND
footprint RES-SM-0805
pins: 1, 2

## Res-10-0805
designator R?  value 10
RES 10 OHM 0.1% 1/5W 0805; Manufacturer: Vishay Thin Film; Manufacturer Part Number: PTN0805E10R0BST1; Local Supplier: thegioiic; Local Supplier Link: https://thegioiic.com/products/dien-tro-10-ohm-0805-5; Supplier 1: Digikey; Supplier 1 Link: https://www.digikey.com/product-detail/en/vishay-thin-film/PTN0805E10R0BST1/764-1471-1-ND/7103255; Supplier 1 Part Number: 764-1471-1-ND
footprint RES-SM-0805
pins: 1, 2

## Res-10k-0805
designator R?  value 10K
RES 10K OHM 1% 1/4W 0805; Manufacturer: Stackpole Electronics Inc; Manufacturer Part Number: RNCP0805FTD10K0; Local Supplier: thegioiic; Local Supplier Link: https://thegioiic.com/products/dien-tro-10k-ohm-0805-5; Supplier 1: Digikey; Supplier 1 Link: https://www.digikey.com/product-detail/en/stackpole-electronics-inc/RNCP0805FTD10K0/RNCP0805FTD10K0CT-ND/2240601; Supplier 1 Part Number: RNCP0805FTD10K0CT-ND
footprint RES-SM-0805
pins: 1, 2

## Res-12K-0805
designator R?  value 12K
RES 12 KOHM JUMPER 0805; Manufacturer: Vishay Thin Film; Manufacturer Part Number: PAT0805E3121BST1; Local Supplier: icdayroi; Local Supplier Link: https://icdayroi.com/dien-tro-12k-0805-1-goi-50-con; Supplier 1: Digikey; Supplier 1 Link: https://www.digikey.com/product-detail/en/vishay-thin-film/PAT0805E3121BST1/PAT0805E3121BST1-ND/2281536; Supplier 1 Part Number: PAT0805E3121BST1-ND
footprint RES-SM-0805
pins: 1, 2

## Res-15K-0805
designator R?  value 15K
RES 15K OHM 1% 1/4W 0805; Manufacturer: TE Connectivity Passive Product; Manufacturer Part Number: CRGCQ0805F15K; Local Supplier: thegioiic; Local Supplier Link: https://thegioiic.com/products/dien-tro-15k-ohm-0805-1; Supplier 1: Digikey; Supplier 1 Part Number: A129763CT-ND; Supplier 1 Link: https://www.digikey.com/product-detail/en/te-connectivity-passive-product/CRGCQ0805F15K/A129763CT-ND/8577595
footprint RES-SM-0805
pins: 1, 2

## Res-16.9K-0805
designator R?  value 16.9K
RES SMD 16.9K OHM 1% 1/8W 0805; Local Supplier: thegioiic; Local Supplier Link: https://thegioiic.com/products/dien-tro-16-9k-ohm-0805-1; Supplier 1: Digikey; Supplier 1 Link: https://www.digikey.com/product-detail/en/yageo/RC0805FR-0716K9L/311-16.9KCRCT-ND/730573; Supplier 1 Part Number: 311-16.9KCRCT-ND
footprint RES-SM-0805
pins: 1, 2

## Res-30K-0805
designator R?  value 30K
RES SMD 30K OHM 1% 1/8W 0805; Manufacturer: TE Connectivity Passive Product; Manufacturer Part Number: CRG0805F30K; Local Supplier: thegioiic; Local Supplier Link: https://thegioiic.com/products/dien-tro-30k-ohm-0805-1; Supplier 1: Digikey; Supplier 1 Link: https://www.digikey.com/product-detail/en/te-connectivity-passive-product/CRG0805F30K/A126360CT-ND/7603415; Supplier 1 Part Number: A126360CT-ND
footprint RES-SM-0805
pins: 1, 2

## Res-36K-0805
designator R?  value 36K
RES SMD 36K OHM 1% 1/8W 0805; Manufacturer: Yageo; Manufacturer Part Number: RC0805FR-0736KL; Local Supplier: thegioiic; Local Supplier Link: https://thegioiic.com/products/dien-tro-36k-ohm-0805-5; Supplier 1: Digikey; Supplier 1 Link: https://www.digikey.com/product-detail/en/yageo/RC0805FR-0736KL/311-36.0KCRCT-ND/730830; Supplier 1 Part Number: 311-36.0KCRCT-ND
footprint RES-SM-0805
pins: 1, 2

## Res-47K-0805
designator R?  value 47K
RES SMD 47K OHM 1% 1/8W 0805; Manufacturer: Yageo; Manufacturer Part Number: RC0805FR-0747KL; Local Supplier: thegioiic; Local Supplier Link: https://thegioiic.com/products/dien-tro-47k-ohm-0603-5; Supplier 1: Digikey; Supplier 1 Part Number: 311-47.0KCRCT-ND; Supplier 1 Link: https://www.digikey.com/product-detail/en/yageo/RC0805FR-0747KL/311-47.0KCRCT-ND/730920
footprint RES-SM-0805
pins: 1, 2

## Res-100K-0805
designator R?  value 100K
RES 0 OHM JUMPER 0805; Manufacturer: Vishay Dale; Manufacturer Part Number: WSL080500000ZEA9; Local Supplier: thegioiic; Local Supplier Link: https://thegioiic.com/products/dien-tro-0-ohm-0805-5; Supplier 1: Digikey; Supplier 1 Link: https://www.digikey.com/product-detail/en/vishay-dale/WSL080500000ZEA9/541-3928-1-ND/7423223; Supplier 1 Part Number: 541-3928-1-ND
footprint RES-SM-0805
pins: 1, 2

## Res-270-0805
designator R?  value 270
RES SMD 270 OHM 0.1% 0.15W 0705; Manufacturer: Vishay Dale; Manufacturer Part Number: M55342E06B270ART5; Local Supplier: thegioiic; Local Supplier Link: https://thegioiic.com/products/dien-tro-270-ohm-0805-5; Supplier 1: Digikey; Supplier 1 Link: https://www.digikey.com/product-detail/en/vishay-dale/M55342E06B270ART5/1135-1723-6-ND/3197905; Supplier 1 Part Number: 1135-1723-6-ND
footprint RES-SM-0805
pins: 1, 2

## Res-470-0805
designator R?  value 470
RES 470 OHM JUMPER 0805; Manufacturer: YAG6006CT-ND; Manufacturer Part Number: PE0805FRF7W0R047L; Local Supplier: thegioiic; Local Supplier Link: https://www.thegioiic.com/products/dien-tro-470-kohm-0805-5; Supplier 1: Digikey; Supplier 1 Link: https://www.digikey.com/product-detail/en/yageo/PE0805FRF7W0R047L/YAG6006CT-ND/9696460; Supplier 1 Part Number: YAG6006CT-ND
footprint RES-SM-0805
pins: 1, 2

## S8050
designator Q?
footprint SOT23_NEX
pins: 1 B, 2 E, 3 C

## STM32F103C8T6
designator ?
No Description Available; SourceLibrary: StMicro_2011-06-07; Built_By: EMA_UL_Team; Vendor: STMicroelectronics; Manufacturer_Part_Number: STM32F103C8T6; Copyright: Copyright (C) 2018 Accelerated Designs. All rights reserved; RefDes: RefDes; Type: DEV
footprint STM32
pins: 1 VBAT (power), 2 PC13-TAMPER-RTC (io), 3 PC14-OSC32_IN (io), 4 PC15-OSC32_OUT (io), 5 PD0-OSC_IN (io), 6 PD1-OSC_OUT (io), 7 NRST (io), 8 VSSA (power), 9 VDDA (power), 10 PA0-WKUP (io), 11 PA1 (io), 12 PA2 (io), 13 PA3 (io), 14 PA4 (io), 15 PA5 (io), 16 PA6 (io), 17 PA7 (io), 18 PB0 (io), 19 PB1 (io), 20 PB2 (io), 21 PB10 (io), 22 PB11 (io), 23 VSS_1 (power), 24 VDD_1 (power), 25 PB12 (io), 26 PB13 (io), 27 PB14 (io), 28 PB15 (io), 29 PA8 (io), 30 PA9 (io), 31 PA10 (io), 32 PA11 (io), 33 PA12 (io), 34 PA13 (io), 35 VSS_2 (power), 36 VDD_2 (power), 37 PA14 (io), 38 PA15 (io), 39 PB3 (io), 40 PB4 (io), 41 PB5 (io), 42 PB6 (io), 43 PB7 (io), 44 BOOT0 (in), 45 PB8 (io), 46 PB9 (io), 47 VSS_3 (power), 48 VDD_3 (power)

## XC6204B332MR
designator U?
Vendor: Torex Semiconductor; Built_By: EMA_UL_Team; SourceLibrary: Torex_2016-07-05_1; Manufacturer_Part_Number: XC6204B332MR; Copyright: Copyright (C) 2018 Accelerated Designs. All rights reserved; RefDes: RefDes; Type: DEV
footprint XC6204/05_SOT-00
pins: 1 VIN (in), 2 VSS, 3 CE, 4 NC, 5 VOUT (out)